# Altium schematic symbol library STC12_1.SCHLIB: 30 symbols
Pins are listed as number, name and electrical type; pins without a type are passive.

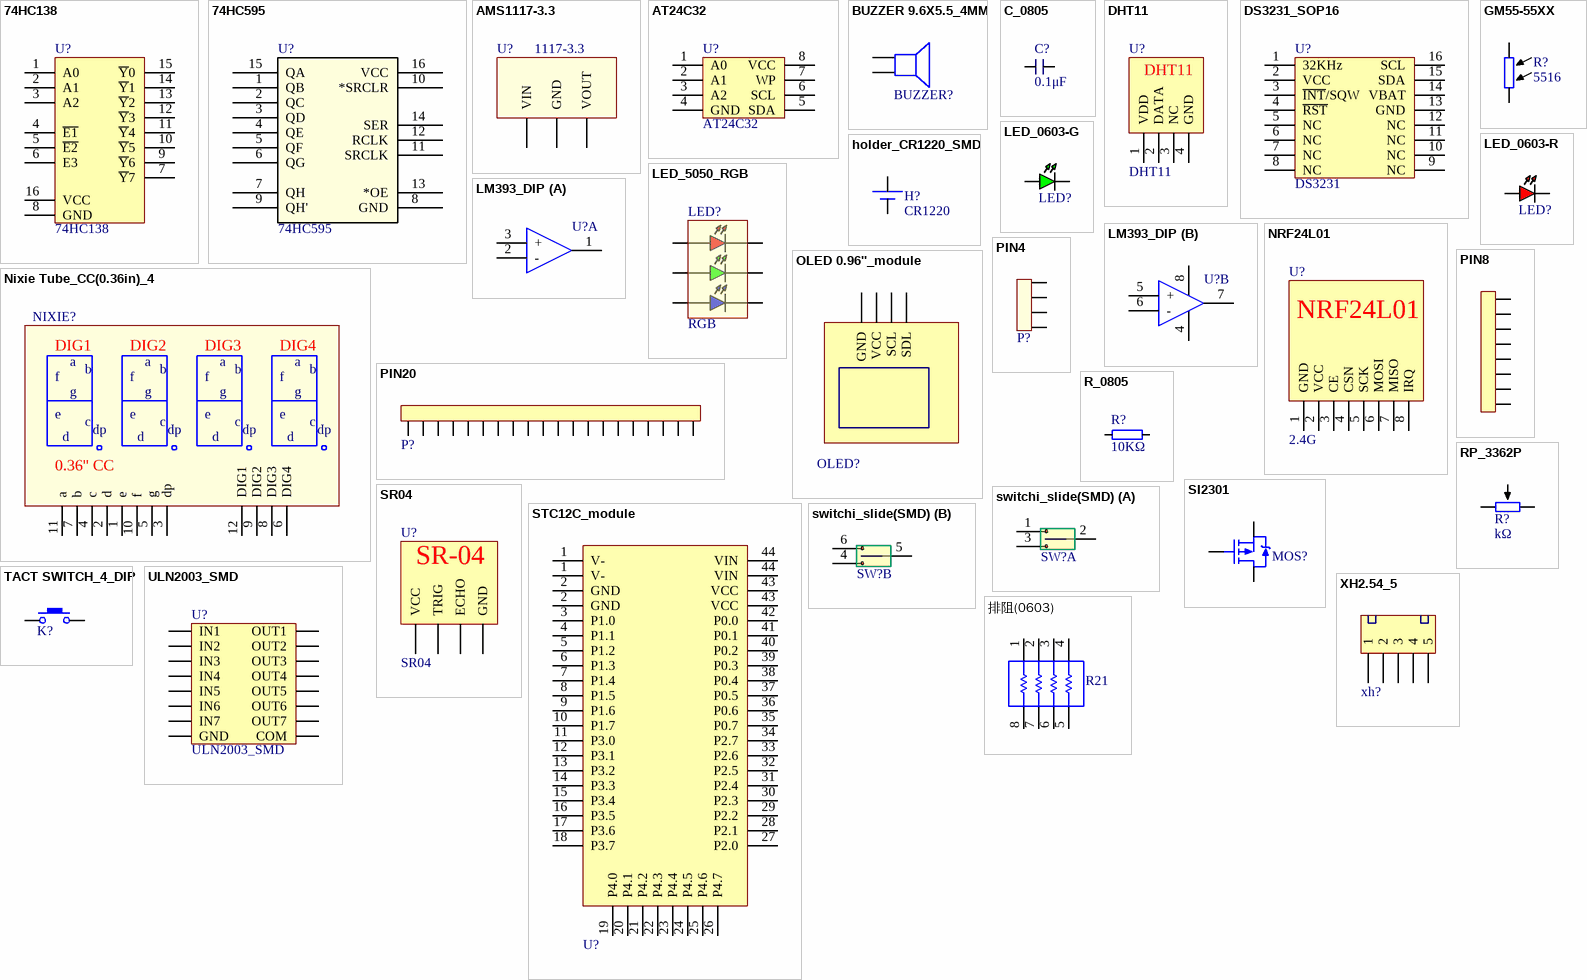
[diagram p0: symbols 74HC138 to 排阻(0603)]

## 74HC138
designator U?
footprint SOP_16
pins: 1 A0, 2 A1, 3 A2, 4 ~{E1}, 5 ~{E2}, 6 E3, 7 ~{Y}7, 8 GND, 9 ~{Y}6, 10 ~{Y}5, 11 ~{Y}4, 12 ~{Y}3, 13 ~{Y}2, 14 ~{Y}1, 15 ~{Y}0, 16 VCC

## 74HC595
designator U?
footprint SOP_16
pins: 1 QB, 2 QC, 3 QD, 4 QE, 5 QF, 6 QG, 7 QH, 8 GND, 9 QH', 10 *SRCLR, 11 SRCLK, 12 RCLK, 13 *OE, 14 SER, 15 QA, 16 VCC

## AMS1117-3.3
designator U?, comment 1117-3.3
footprint SOT_223
pins: 1 GND, 2 VOUT, 3 VIN
1 alternate drawing of the same symbol

## AT24C32
designator U?
footprint SOP_8
pins: 1 A0, 2 A1, 3 A2, 4 GND, 5 SDA, 6 SCL, 7 WP, 8 VCC

## BUZZER 9.6X5.5_4MM
designator BUZZER?  (value not drawn)
footprint BUZZER9.6x4_4mm
pins: 1 +, 2

## C_0805
designator C?, comment 0.1μF
footprint C_0805
pins: 1, 2

## DHT11
designator U?
footprint DHT11
pins: 1 VDD, 2 DATA, 3 NC, 4 GND

## DS3231_SOP16
designator U?, comment DS3231
footprint SOP_16
pins: 1 32KHz, 2 VCC, 3 ~{INT}/SQW, 4 ~{RST}, 5 NC, 6 NC, 7 NC, 8 NC, 9 NC, 10 NC, 11 NC, 12 NC, 13 GND, 14 VBAT, 15 SDA, 16 SCL

## GM55-55XX
designator R?, comment 5516
footprint GM55-55XX
pins: 1, 2

## holder_CR1220_SMD
designator H?, comment CR1220
footprint holder_CR1220_SMD
pins: 1 +, 2 -

## LED_0603-G
designator LED?  (value not drawn)
footprint LED_0603-G
pins: 1, 2

## LED_0603-R
designator LED?  (value not drawn)
footprint LED_0603-R
pins: 1, 2

## LED_5050_RGB
designator LED?, comment RGB
footprint LED 5050_RGB
pins: 1, 2, 3, 4, 5, 6

## LM393_DIP
designator U?  (value not drawn)
footprint DIP_8
footprint SOP_8
part A pins: 1, 2 -, 3 +
part B pins: 4 GND, 5 +, 6 -, 7, 8 VCC

## Nixie Tube_CC(0.36in)_4
designator NIXIE?  (value not drawn)
footprint Nixie Tube_4(0.36in)
pins: 1 e, 2 d, 3 dp, 4 c, 5 g, 6 DIG4, 7 b, 8 DIG3, 9 DIG2, 10 f, 11 a, 12 DIG1
text: 0.36'' CC

## NRF24L01
designator U?, comment 2.4G
footprint NRF24L01
pins: 1 GND, 2 VCC, 3 CE, 4 CSN, 5 SCK, 6 MOSI, 7 MISO, 8 IRQ

## OLED 0.96''_module
designator OLED?, comment 0.96''  (value not drawn)
footprint OLED 0.96''
pins: 1 GND, 2 VCC, 3 SCL, 4 SDL

## PIN4
designator P?  (value not drawn)
footprint PIN_4
pins: 1, 2, 3, 4

## PIN8
designator P?  (value not drawn)
footprint PIN_8
pins: 1, 2, 3, 4, 5, 6, 7, 8

## PIN20
designator P?  (value not drawn)
footprint PIN_20
pins: 1, 2, 3, 4, 5, 6, 7, 8, 9, 10, 11, 12, 13, 14, 15, 16, 17, 18, 19, 20

## R_0805
designator R?, comment 10KΩ
footprint R_0805
pins: 1, 2

## RP_3362P
designator R?, comment kΩ
footprint RP_3362P
pins: 1, 2, 3

## SI2301
designator MOS?  (value not drawn)
footprint SOT_23_3
pins: 1 G, 2 S, 3 D

## SR04
designator U?
footprint SR04
pins: 1 VCC, 2 TRIG, 3 ECHO, 4 GND
text: SR-04

## STC12C_module
designator U?, comment socket  (value not drawn)
footprint STC12_moudle
pins: 1 V-, 1 V-, 2 GND, 2 GND, 3 P1.0, 4 P1.1, 5 P1.2, 6 P1.3, 7 P1.4, 8 P1.5, 9 P1.6, 10 P1.7, 11 P3.0, 12 P3.1, 13 P3.2, 14 P3.3, 15 P3.4, 16 P3.5, 17 P3.6, 18 P3.7, 19 P4.0, 20 P4.1, 21 P4.2, 22 P4.3, 23 P4.4, 24 P4.5, 25 P4.6, 26 P4.7, 27 P2.0, 28 P2.1, 29 P2.2, 30 P2.3, 31 P2.4, 32 P2.5, 33 P2.6, 34 P2.7, 35 P0.7, 36 P0.6, 37 P0.5, 38 P0.4, 39 P0.3, 40 P0.2, 41 P0.1, 42 P0.0, 43 VCC, 43 VCC, 44 VIN, 44 VIN

## switchi_slide(SMD)
designator SW?  (value not drawn)
footprint switchi_slide(SMD)
part A pins: 1, 2, 3
part B pins: 4 3, 5 2, 6 1

## TACT SWITCH_4_DIP
designator K?  (value not drawn)
footprint TACT SWITCH_4_DIP
pins: 1, 2

## ULN2003_SMD
designator U?
footprint SOP_16
pins: 1 IN1, 2 IN2, 3 IN3, 4 IN4, 5 IN5, 6 IN6, 7 IN7, 8 GND, 9 COM, 10 OUT7, 11 OUT6, 12 OUT5, 13 OUT4, 14 OUT3, 15 OUT2, 16 OUT1

## XH2.54_5
designator xh?  (value not drawn)
footprint XH2.54_5
pins: 1, 2, 3, 4, 5

## 排阻(0603)
designator ?, comment R21
footprint 排阻(0603)
pins: 1, 2, 3, 4, 5, 6, 7, 8